# Altium schematic symbol library VarReg.SchLib: 4 symbols
Pins are listed as number, name and electrical type; pins without a type are passive.

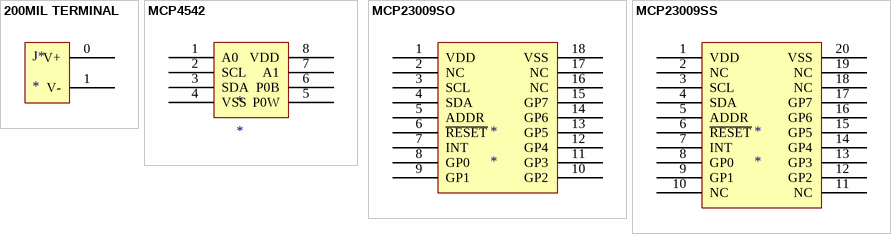
[diagram p0: symbols 200MIL TERMINAL to MCP23009SS]

## 200MIL TERMINAL
designator J*
pins: 0 V+, 1 V-

## MCP4542
designator *
pins: 1 A0, 2 SCL, 3 SDA, 4 VSS, 5 P0W, 6 P0B, 7 A1, 8 VDD

## MCP23009SO
designator *
pins: 1 VDD, 2 NC, 3 SCL, 4 SDA, 5 ADDR, 6 ~{RESET}, 7 INT, 8 GP0, 9 GP1, 10 GP2, 11 GP3, 12 GP4, 13 GP5, 14 GP6, 15 GP7, 16 NC, 17 NC, 18 VSS

## MCP23009SS
designator *
pins: 1 VDD, 2 NC, 3 SCL, 4 SDA, 5 ADDR, 6 ~{RESET}, 7 INT, 8 GP0, 9 GP1, 10 NC, 11 NC, 12 GP2, 13 GP3, 14 GP4, 15 GP5, 16 GP6, 17 GP7, 18 NC, 19 NC, 20 VSS